# EAGLE library part LM5166XDRCT (library LM5166XDRCT Buck Converter)
Check availability <https://pricing.snapeda.com/parts/LM5166XDRCT/Texas%20Instruments/view-part?ref=eda>
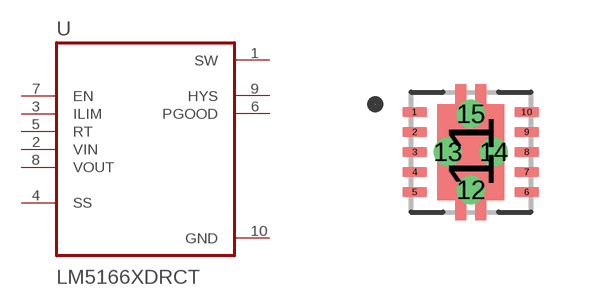
[diagram p0: symbol with the pads of VREG_V62/16624-01YE; footprint VREG_V62/16624-01YE]

Designator prefix U

## LM5166XDRCT (Availability: In Stock; Check_prices: https://www.snapeda.com/parts/LM5166XDRCT/Texas+Instruments/view-part/?ref=eda; Description: 3V-65V Input, 500mA Synchronous Buck Converter With Ultra-Low Iq; MF: Texas Instruments; MP: LM5166XDRCT; Package: VSON-10 Texas Instruments; Price: None; SnapEDA_Link: https://www.snapeda.com/parts/LM5166XDRCT/Texas+Instruments/view-part/?ref=snap)  [VREG_V62/16624-01YE]
1  SW  pwr
2  VIN  in
3  ILIM  in
4  SS
5  RT  in
6  PGOOD  out
7  EN  in
8  VOUT  in
9  HYS  out
10  GND  pwr

## Footprint VREG_V62/16624-01YE (pad centres in mm)
smd 0.6 x 0.24: 1 -1.4,1; 2 -1.4,0.5; 3 -1.4,0; 4 -1.4,-0.5; 5 -1.4,-1; 6 1.4,-1; 7 1.4,-0.5; 8 1.4,0; 9 1.4,0.5; 10 1.4,1
smd 1.65 x 2.4: 11 0,0
drill 0.2 pad 0.3: 12 0,-0.95; 13 -0.575,0; 14 0.575,0; 15 0,0.95